# EAGLE library part BM15A0001 (library Balun)
Johanson Technology 433 / 868 / 915 MHz Impedance Matched/Balun/LPF Integrated Component.
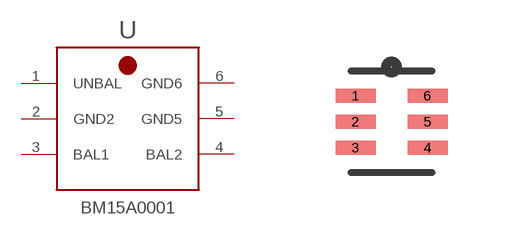
[diagram p1: symbol with the pads of BALUN-0433BM15A0001; footprint BALUN-0433BM15A0001]

Designator prefix -

## BM15A0001E (PHASEIV_PN: 12-100025-00)  [BALUN-0433BM15A0001]
1  UNBAL
2  GND2  pwr
3  BAL1
4  BAL2
5  GND5  pwr
6  GND6  pwr

## Footprint BALUN-0433BM15A0001 (pad centres in mm)
Johanson Technology Impedance Matched/Balun/LPF Intergrated Component. 0805 2 x 1.25mm
smd 1 x 0.35: 1 -0.9,0.65; 2 -0.9,0; 3 -0.9,-0.65; 4 0.9,-0.65; 5 0.9,0; 6 0.9,0.65